# EAGLE library part CSD16404 (library slom)
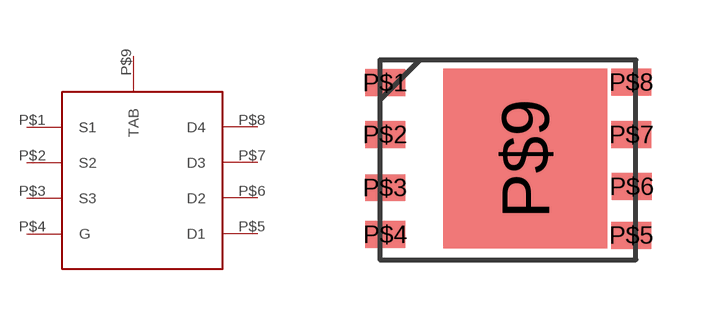
[diagram p3: symbol with the pads of QFN-8; footprint QFN-8]

Designator prefix -

## CSD16404  [QFN-8]
P$1  S1
P$2  S2
P$3  S3
P$4  G
P$5  D1
P$6  D2
P$7  D3
P$8  D4
P$9  TAB

## Footprint QFN-8 (pad centres in mm)
smd 1 x 0.67: P$1 0.53,4.23; P$2 0.53,2.93; P$3 0.53,1.6; P$4 0.54,0.43; P$5 6.69,0.41; P$6 6.7,1.63; P$7 6.69,2.93; P$8 6.69,4.24
smd 4.1 x 4.5: P$9 4.03,2.33